# Altium schematic symbol library DI_LED_RY_2P.SchLib: 1 symbol
Pins are listed as number, name and electrical type; pins without a type are passive.

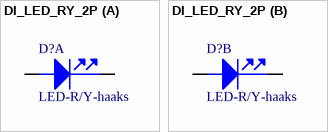
[diagram p0: symbol DI_LED_RY_2P]

## DI_LED_RY_2P
designator D?, comment LED-R/Y-haaks
part A pins: A1 A, K1 C
part B pins: A2 A, K2 C